# EAGLE library part PLCC6 (library Class Sample)
QBLP679E-RGB LED
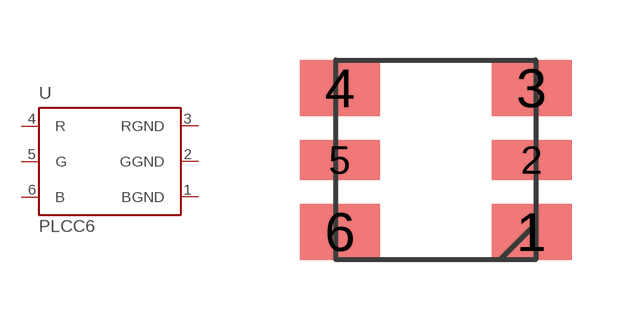
[diagram p0: symbol with the pads of PLCC6; footprint PLCC6]

Designator prefix -

## PLCC6  [PLCC6]
1  BGND
2  GGND
3  RGND
4  R
5  G
6  B

## Footprint PLCC6 (pad centres in mm)
smd 2 x 1.4: 1 2.4,-1.8; 3 2.4,1.8; 4 -2.4,1.8; 6 -2.4,-1.8
smd 2 x 1: 2 2.4,0; 5 -2.4,0